# Altium schematic symbol library AAI_PCB.Schematic_Library.SchLib: 16 symbols
Pins are listed as number, name and electrical type; pins without a type are passive.

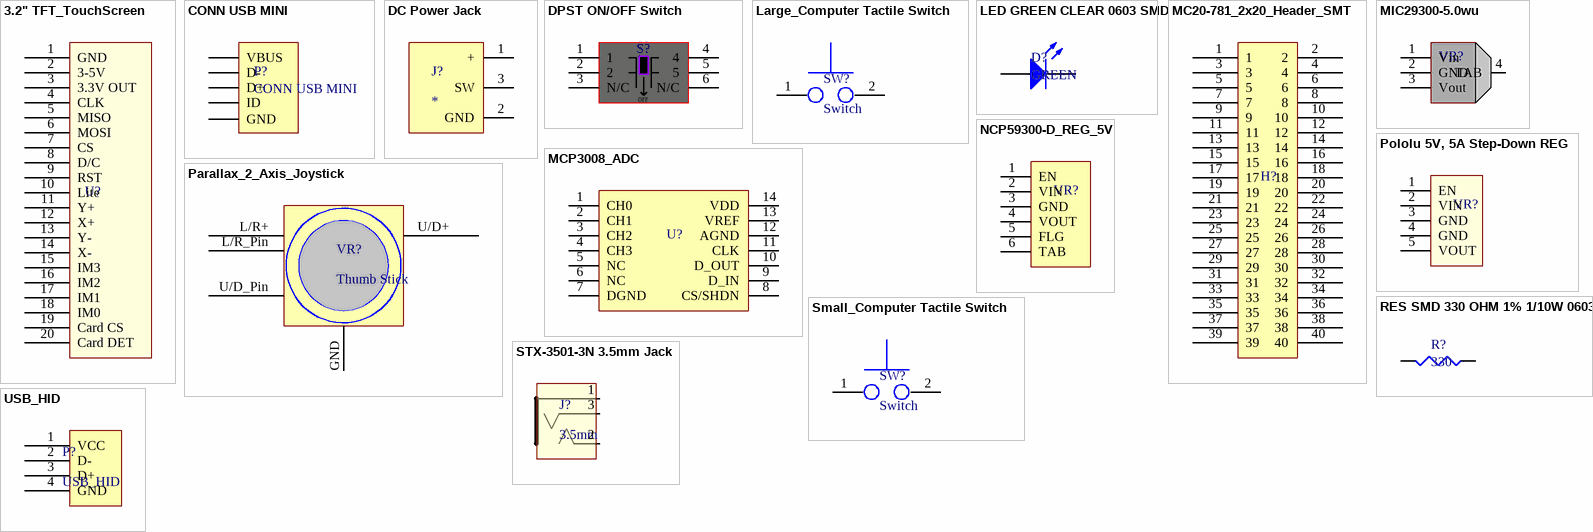
[diagram p0: symbols 3.2" TFT_TouchScreen to USB_HID]

## 3.2" TFT_TouchScreen
designator U?, comment 3.2" Screen  (value not drawn)
Adafruit 3.2" TFT Screen
footprint 3.2" TFT_Touch Screen
pins: 1 GND, 2 3-5V, 3 3.3V OUT, 4 CLK, 5 MISO, 6 MOSI, 7 CS, 8 D/C, 9 RST, 10 Lite, 11 Y+, 12 X+, 13 Y-, 14 X-, 15 IM3, 16 IM2, 17 IM1, 18 IM0, 19 Card CS, 20 Card DET

## CONN USB MINI
designator P?
CONN USB RECEPTACLE 5POS RT ANG; Manufacturer: Molex, LLC; Manufacturer Part Number: 0548190519; Connector Type: USB - mini B; Number of Contacts: 5; Specifications: USB 2.0 OTG; Current Rating: 1A; Voltage - Rated: 30V; Mating Cycles: 5000; Shielding: Shielded; Material Flammability Rating: UL94 V-0; Supplier 1: Digi-Key; RoHS: RoHS Compliant; Category: Connectors, Interconnects; Stock 1: 18079; Pricing 1: 1=1.64, 10=1.485, 25=1.394, 50=1.3332, 100=1.2726, 250=1.1514, 500=1.0605, 1000=0.909, 2500=0.8484 (USD); Packaging: Tray; Part Status: Active; Gender: Receptacle; Mounting Type: Through Hole, Right Angle; Mounting Feature: Horizontal; Termination: Solder; Features: -; Ingress Protection: -; Operating Temperature: -20°C ~ 85°C; Contact Finish: Gold; Shell/Shielding Material: Copper Alloy; Insulation Color: Black; ComponentLink1URL: https://www.molex.com/pdm_docs/sd/548190519_sd.pdf; ComponentLink1Description: https://www.molex.com/pdm_docs/sd/548190519_sd.pdf; Supplier Part Number 1: WM17115-ND
footprint CONN USB Mini
pins: 1 VBUS, 2 D-, 3 D+, 4 ID, 5 GND

## DC Power Jack
designator J?
footprint DC Power Jack (CUI_DEVICES_PJ-051AH)
pins: 1 +, 2 GND, 3 SW

## DPST ON/OFF Switch
designator S?  (value not drawn)
SWITCH SLIDE DPST 4A 125V; Manufacturer: ITT C&K; Manufacturer Part Number: L101011MS02Q; Actuator Material: Nylon,Polyamide; Voltage Rating (DC): 28V; Max Voltage Rating (AC): 250V; Throw Configuration: SPST; Contact Current Rating: 2A; Electrical Life: 10000Cycles; Switch Travel: 3.81mm; Switch Function: On-Off; Actuator Type: Standard; Actuator Length: 5.08mm; Supplier 1: Digi-Key; Stock 1: 3221; Pricing 1: 1=1.83, 10=1.754, 25=1.7172, 50=1.4932, 100=1.4558, 250=1.41844, 500=1.19448, 1000=1.11983, 5000=1.02651 (USD); Mount: Through Hole; Contact Material: Copper; Contact Plating: Silver; Housing Material: Nylon; Min Operating Temperature: -30°C; Max Operating Temperature: 65°C; Max Current Rating: 4A; Voltage Rating (AC): 125V; Max Voltage Rating (DC): 125V; Package Quantity: 1; Packaging: Bulk; Current Rating: 4A; Termination: PC Pins; Orientation: Straight; Length: 19.1mm; Depth: 10.8mm; Radiation Hardening: No; Lead Free: Lead Free; ComponentLink1URL: https://www.verical.com/server-webapp/html/getDatasheet?partID=301248&src-supplier=Verical; ComponentLink1Description: https://www.verical.com/server-webapp/html/getDatasheet?partID=301248&src-supplier=Verical; ComponentLink2URL: https://www.ckswitches.com/media/1423/l.pdf?src-supplier=Digi-Key; ComponentLink2Description: https://www.ckswitches.com/media/1423/l.pdf?src-supplier=Digi-Key; Supplier Part Number 1: CKC5106-ND
footprint DPST ON/OFF (ON/OFF Switch)
pins: 1, 2, 3 N/C, 4, 5, 6 N/C
text: OFF

## Large_Computer Tactile Switch
designator SW?, comment Switch
PG1350 Tactile Switch
footprint Large_Computer Tactile Switch (CPG135001D02_-_Brown_Tactile_Choc)
pins: 1, 2

## LED GREEN CLEAR 0603 SMD
designator D?, comment GREEN
LED GREEN CLEAR 0603 SMD; Manufacturer: Lite-On Inc.; Manufacturer Part Number: LTST-C191KGKT; Lens Color: Colorless; Millicandela Rating: 35mcd; Lens Style/Size: Rectangle with Flat Top, 1.10mm x 0.80mm; Voltage - Forward (Vf) (Typ): 2V; Current - Test: 20mA; Viewing Angle: 130°; Wavelength - Dominant: 571nm; Wavelength - Peak: 574nm; Supplier 1: Digi-Key; RoHS: RoHS Compliant; Category: Optoelectronics; Stock 1: 1026105; Pricing 1: 1=0.29, 10=0.211, 25=0.1556, 100=0.1111, 250=0.07556, 500=0.06666, 1000=0.05222, 2500=0.05111 (USD); Packaging: Cut Tape (CT); Part Status: Active; Color: Green; Lens Transparency: Clear; Mounting Type: Surface Mount; Features: -; Package / Case: 0603 (1608 Metric); Size / Dimension: 1.60mm L x 0.80mm W; Height (Max): 0.55mm; ComponentLink1URL: http://optoelectronics.liteon.com/upload/download/DS22-2000-228/LTST-C191KGKT.PDF; ComponentLink1Description: http://optoelectronics.liteon.com/upload/download/DS22-2000-228/LTST-C191KGKT.PDF; Supplier Part Number 1: 160-1446-1-ND
footprint LED GREEN  0603 SMD
pins: 1 A, 2 K

## MC20-781_2x20_Header_SMT
designator H?, comment 2x20 Header  (value not drawn)
2x20 Header SMT
footprint Header 2 x 20 (M20-781)
pins: 1, 2, 3, 4, 5, 6, 7, 8, 9, 10, 11, 12, 13, 14, 15, 16, 17, 18, 19, 20, 21, 22, 23, 24, 25, 26, 27, 28, 29, 30, 31, 32, 33, 34, 35, 36, 37, 38, 39, 40

## MCP3008_ADC
designator U?, comment MCP3008  (value not drawn)
2.7V 4-Channel/8-Channel 10-Bit A/D Converters / with SPI Serial Interface
footprint MCP3008
pins: 1 CH0, 2 CH1, 3 CH2, 4 CH3, 5 NC, 6 NC, 7 DGND, 8 CS/SHDN, 9 D_IN, 10 D_OUT, 11 CLK, 12 AGND, 13 VREF, 14 VDD

## MIC29300-5.0wu
designator VR?, comment 5V REG  (value not drawn)
IC REG LINEAR 5V 3A TO263-3
footprint MIC29300-5.0wu (IC REG LINEAR 5V 3A TO263-3)
pins: 1 Vin, 2 GND, 3 Vout, 4 TAB

## NCP59300-D_REG_5V
designator VR?, comment DPAK Case 936  (value not drawn)
NCP59300, NCV59300 Series / 3.0 A, Very Low-Dropout / (VLDO) Fast Transient / Response Regulator series
footprint NCP59300 (5V 3.0A Regulator DPAK Case 936)
pins: 1 EN, 2 VIN, 3 GND, 4 VOUT, 5 FLG, 6 TAB

## Parallax_2_Axis_Joystick
designator VR?, comment Thumb Stick
Parallax 2-Axis joystick
footprint 2-Axis_Joystick (Parallax 2-Axis Joystick)
pins: GND, L/R+, L/R_Pin, U/D+, U/D_Pin

## Pololu 5V, 5A Step-Down REG
designator VR?  (value not drawn)
D24V50F5
footprint Pololu 5V, 5A Step-Down REG (D24V50F5)
pins: 1 EN, 2 VIN, 3 GND, 4 GND, 5 VOUT

## RES SMD 330 OHM 1% 1/10W 0603
designator R?, comment 330
RES SMD 330 OHM 1% 1/10W 0603; Manufacturer: Yageo; Manufacturer Part Number: RC0603FR-07330RL; Power (Watts): 0.1W, 1/10W; Temperature Coefficient: ±100ppm/°C; Supplier 1: Digi-Key; RoHS: RoHS Compliant; Category: Resistors; Stock 1: 671835; Pricing 1: 1=0.1, 10=0.024, 100=0.0097, 1000=0.00436, 2500=0.00378 (USD); Packaging: Cut Tape (CT); Part Status: Active; Tolerance: ±1%; Composition: Thick Film; Features: Moisture Resistant; Operating Temperature: -55°C ~ 155°C; Package / Case: 0603 (1608 Metric); Supplier Device Package: 0603; Size / Dimension: 0.063" L x 0.032" W (1.60mm x 0.80mm); Height - Seated (Max): 0.022" (0.55mm); Failure Rate: -; ComponentLink1URL: http://www.yageo.com/documents/recent/PYu-RC_Group_51_RoHS_L_9.pdf; ComponentLink1Description: http://www.yageo.com/documents/recent/PYu-RC_Group_51_RoHS_L_9.pdf; Supplier Part Number 1: 311-330HRCT-ND
footprint RES-0603
pins: 1, 2

## Small_Computer Tactile Switch
designator SW?, comment Switch
PG1350 Tactile Switch
footprint Small_Computer Tactile Switch (CPG135001D02_-_Brown_Tactile_Choc)
pins: 1, 2

## STX-3501-3N 3.5mm Jack
designator J?, comment 3.5mm
1-Sleeve (GND), 2-Tip (Sihnal)
footprint 3.5mm Jack (STX-3501-3N)
pins: 1 Sleeve, 2, 3

## USB_HID
designator P?
USB - A USB 2.0 Receptacle Connector 4 Position Through Hole, Right Angle, Horizontal; Manufacturer: Amphenol Commercial; Manufacturer Part Number: UE27-AC54-100; Number of Contacts: 4; Number of Ports: 1; Max Voltage Rating (AC): 30V; Supplier 1: Digi-Key; Stock 1: 30717; Pricing 1: 1=0.4, 10=0.378, 25=0.3404, 50=0.3024, 100=0.2898, 250=0.2646, 500=0.252, 1000=0.2079, 2500=0.189 (USD); Mount: Through Hole,Horizontal; Case/Package: Module; Contact Plating: Nickel,Tin,Gold; Contact Material: Nickel,Copper Alloy; Colour: Black; Number of Terminals: 4; Housing Material: Thermoplastic; Min Operating Temperature: -55°C; Max Operating Temperature: 85°C; Package Quantity: 120; Packaging: Tray; Gender: Receptacle; Connector Type: USB; Number of Positions: 4; Termination: Solder; Orientation: Right Angle; Length: 14.5mm; Depth: 13.85mm; Radiation Hardening: No; REACH SVHC: Unknown; Lead Free: Lead Free; Flammability Rating: UL94 V-0; ComponentLink1URL: https://datasheet.ciiva.com/3095/usb-cat-3095736.pdf; ComponentLink1Description: https://datasheet.ciiva.com/3095/usb-cat-3095736.pdf; ComponentLink2URL: https://datasheet.ciiva.com/16668/usb-cat-16668272.pdf; ComponentLink2Description: https://datasheet.ciiva.com/16668/usb-cat-16668272.pdf; ComponentLink3URL: https://datasheet.ciiva.com/851/ue27acx4x0x-851297.pdf; ComponentLink3Description: https://datasheet.ciiva.com/851/ue27acx4x0x-851297.pdf; ComponentLink4URL: https://datasheet.ciiva.com/12494/ue27acx4x0x-45641-12494043.pdf; ComponentLink4Description: https://datasheet.ciiva.com/12494/ue27acx4x0x-45641-12494043.pdf; Supplier Part Number 1: UE27AC54100-ND
footprint USB_HID
pins: 1 VCC, 2 D-, 3 D+, 4 GND